# EAGLE library part TC4428 (library Skoba)
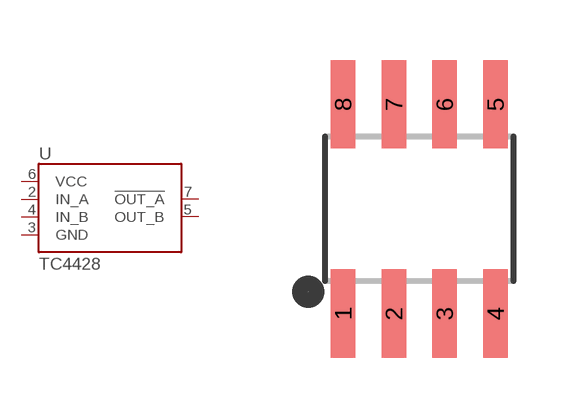
[diagram p45: symbol with the pads of SO08; footprint SO08]

Designator prefix U

## TC4428SOIC-8  [SO08]
2  IN_A
3  GND
4  IN_B
5  OUT_B
6  VCC
7  !OUT_A

## Footprint SO08 (pad centres in mm)
Small Outline Package Fits JEDEC packages (narrow SOIC-8)
smd 0.61 x 2.21: 1 -1.905,-2.616; 2 -0.635,-2.616; 3 0.635,-2.616; 4 1.905,-2.616; 5 1.905,2.616; 6 0.635,2.616; 7 -0.635,2.616; 8 -1.905,2.616